# Altium integrated library Other$.IntLib: 2 symbols
Pins are listed as number, name and electrical type; pins without a type are passive.

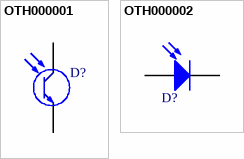
[diagram p0: symbols OTH000001 to OTH000002]

## OTH000001
designator D?, comment TEMT6200  (value not drawn)
LIGHT SENSOR TEMT6200 SM; Manufactuer: Vishay; Manufacturer-PN: TEMT6200FX01; UoA Stock#: OTH000001; Assembly Method: Surface Mount; Item Type: Item; Path: ece/ts/Lists/Stock Inventory; Revision: July-2002: Re-released for DXP Platform.; Value: TEMT6200; Size/Package: 0805/2012; Datasheet Link: http://share.engineering.auckland.ac.nz/ece/ts/Student%20Documents/temt6200.pdf; Supplier1: Digikey; Supplier1-PN: 751-1056-1-ND; Component Type: SEN-0805-TEMT6200; Category: Other; Status: Non Stocked
footprint ECE-SENSOR-0805SM (Chip Sensor, Body 2.0x1.3mm, IPC Medium Density)
pins: 1 E, 2 C

## OTH000002
designator D?, comment SD019  (value not drawn)
PHOTO DIODE SD019 SM; Manufactuer: Luna Optoelectronincs; Manufacturer-PN: SD019-101-411; UoA Stock#: OTH000002; Assembly Method: Surface Mount; Item Type: Item; Path: ece/ts/Lists/Stock Inventory; Value: SD019; Size/Package: 0805/2012; Datasheet Link: http://share.engineering.auckland.ac.nz/ece/ts/Student%20Documents/SD%20019-101-411.pdf; Supplier1: Digikey; Supplier1-PN: SD019-101-411TR-ND; Component Type: PHDIO-0805-SD019; Category: Other; Status: Non Stocked
footprint ECE-PhDio2012SM
pins: 1 A, 2 K